# EAGLE library part GT-USB-7010ASV (library GT-USB-7010ASV)
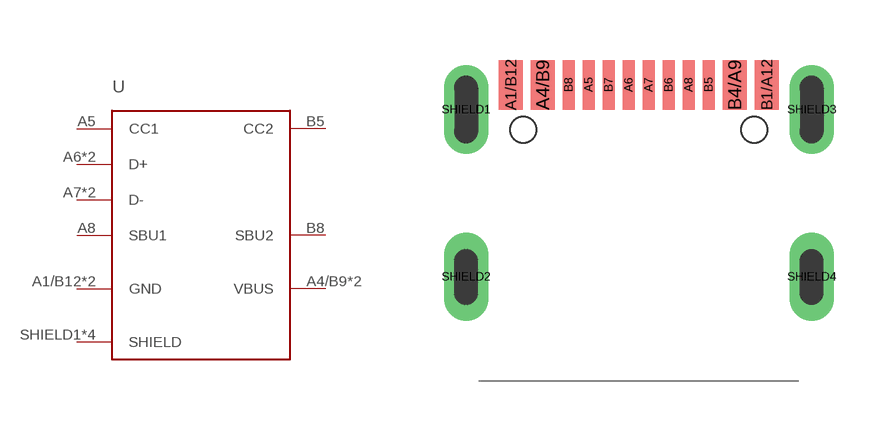
[diagram p0: symbol with the pads of 16P; footprint 16P]

Designator prefix -

## GT-USB-7010ASV  [16P]
A1/B12  GND
A4/B9  VBUS
A5  CC1
A6  D+
A7  D-
A8  SBU1
B1/A12  GND
B4/A9  VBUS
B5  CC2
B6  D+
B7  D-
B8  SBU2
SHIELD1  SHIELD
SHIELD2  SHIELD
SHIELD3  SHIELD
SHIELD4  SHIELD

## Footprint 16P (pad centres in mm)
smd 0.6 x 1.24: A1/B12 -3.2,4.8; A4/B9 -2.4,4.8; B1/A12 3.2,4.8; B4/A9 2.4,4.8
smd 0.3 x 1.24: A5 -1.25,4.8; A6 -0.25,4.8; A7 0.25,4.8; A8 1.25,4.8; B5 1.75,4.8; B6 0.75,4.8; B7 -0.75,4.8; B8 -1.75,4.8
drill 0.6 pad 1.05 long: SHIELD1 -4.32,4.18; SHIELD3 4.32,4.18
drill 0.6 pad 0.9 long: SHIELD2 -4.32,0; SHIELD4 4.32,0
hole 0.65 at -2.89,3.68
hole 0.65 at 2.89,3.68